# Altium schematic symbol library Trans.SchLib: 11 symbols
Pins are listed as number, name and electrical type; pins without a type are passive.

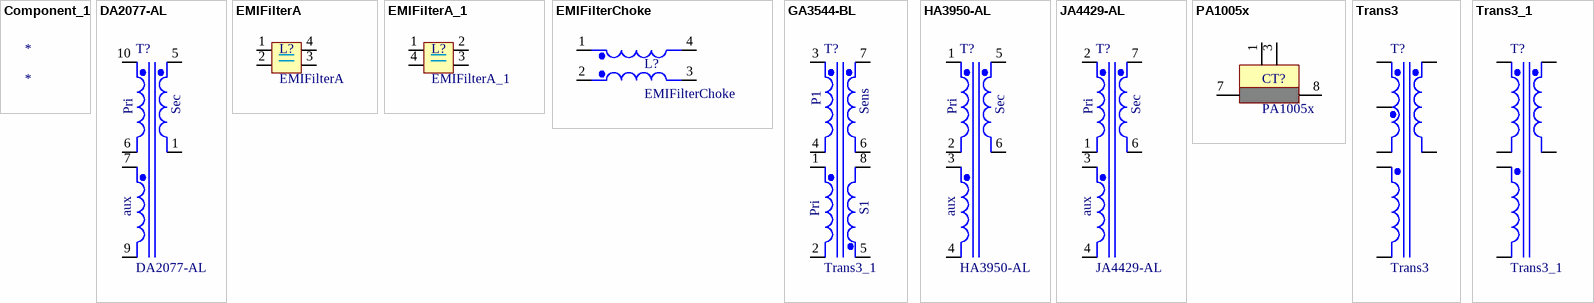
[diagram p0: symbols Component_1 to Trans3_1]

## Component_1
designator *

## DA2077-AL
designator T?
Flyback Transformer; Manufacturer: Coilcraft; Sim Note: Enter the turns ratios, Core loss resistance, Magnetising Reactance, Leakage Reactances and Resistances referred to the primary side into the parameter fields.; Published: 08-Jan-2020; LatestRevisionDate: 17-Jul-2002; LatestRevisionNote: Re-released for DXP Platform.; Publisher: NamiOn; PartNumber: DA2077-AL
footprint DA2077-AL
pins: 1, 5, 6, 7, 9, 10
text: Pri; Sec; aux

## EMIFilterA
designator L?
pins: 1, 2, 3, 4

## EMIFilterA_1
designator L?
pins: 1, 2, 3, 4

## EMIFilterChoke
designator L?
pins: 1, 2, 3, 4

## GA3544-BL
designator T?, comment Trans3_1
Flyback Transformer; Manufacturer: Coilcraft; PartNumber: GA3544-BL; Sim Note: Enter the turns ratios, Core loss resistance, Magnetising Reactance, Leakage Reactances and Resistances referred to the primary side into the parameter fields.; Published: 08-Jan-2020; LatestRevisionDate: 17-Jul-2002; LatestRevisionNote: Re-released for DXP Platform.; Publisher: NamiOn
footprint GA3544-BL
pins: 1, 2, 3, 4, 5, 6, 7, 8
text: P1; Sens; S1; Pri

## HA3950-AL
designator T?
Flyback Transformer; Manufacturer: Coilcraft; Sim Note: Enter the turns ratios, Core loss resistance, Magnetising Reactance, Leakage Reactances and Resistances referred to the primary side into the parameter fields.; Published: 08-Jan-2020; LatestRevisionDate: 17-Jul-2002; LatestRevisionNote: Re-released for DXP Platform.; Publisher: NamiOn; PartNumber: HA3950-AL
footprint HA3950-AL
pins: 1, 2, 3, 4, 5, 6
text: Pri; Sec; aux

## JA4429-AL
designator T?
Flyback Transformer; Manufacturer: Coilcraft; Sim Note: Enter the turns ratios, Core loss resistance, Magnetising Reactance, Leakage Reactances and Resistances referred to the primary side into the parameter fields.; Published: 08-Jan-2020; LatestRevisionDate: 17-Jul-2002; LatestRevisionNote: Re-released for DXP Platform.; Publisher: NamiOn; PartNumber: JA4429-AL
footprint JA4429-AL
pins: 1, 2, 3, 4, 6, 7 6
text: Pri; Sec; aux

## PA1005x
designator CT?
pins: 1, 3, 7, 8

## Trans3
designator T?
Three-winding Transformer (Non-Ideal); Sim Note: Enter the turns ratios, Core loss resistance, Magnetising Reactance, Leakage Reactances and Resistances referred to the primary side into the parameter fields.; Published: 25-Jan-2001; LatestRevisionDate: 17-Jul-2002; LatestRevisionNote: Re-released for DXP Platform.; PackageReference: TRF_6; Publisher: Altium Limited; PackageDescription: Transformer; 6 Leads
footprint DIP10-100mil-400mil
pins: 1 aux+, 2 aux-, 3 Pri+, 4 Pric, 5 Pri-, 7 Sec1-, 9 Sec1+

## Trans3_1
designator T?
Three-winding Transformer; Sim Note: Enter the turns ratios, Core loss resistance, Magnetising Reactance, Leakage Reactances and Resistances referred to the primary side into the parameter fields.; Published: 25-Jan-2001; LatestRevisionDate: 17-Jul-2002; LatestRevisionNote: Re-released for DXP Platform.; PackageReference: TRF_6; Publisher: Altium Limited; PackageDescription: Transformer; 6 Leads
footprint E 16/8/5
pins: 1 Pri+, 2 Pri-, 4 aux-, 4 aux+, 7 Sec1-, 8 Sec1+